# Altium schematic symbol library conn_pcie_pci.SchLib: 9 symbols
Pins are listed as number, name and electrical type; pins without a type are passive.

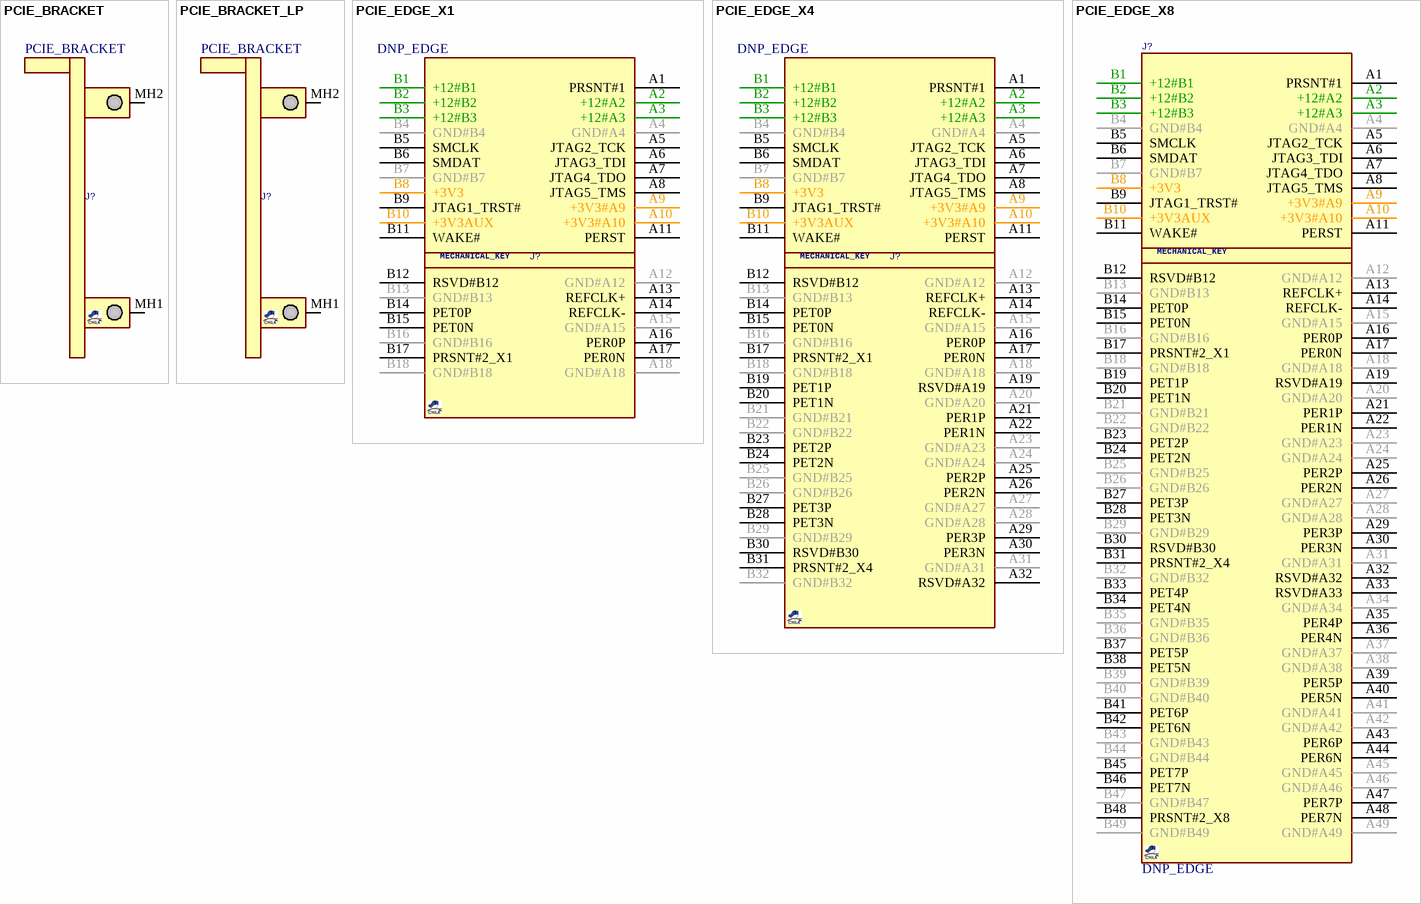
[diagram p0: symbols PCIE_BRACKET to PCIE_EDGE_X8]

## PCIE_BRACKET
designator J?
PC IO BOARD BRACKET; VALUE: PCIE_BRACKET
footprint PCIE_BRACKET (PC IO BOARD BRACKET)
pins: MH1, MH2

## PCIE_BRACKET_LP
designator J?, comment PCIE_BRACKET
PC IO BOARD BRACKET; VALUE: PCIE_BRACKET
footprint PCIE_BRACKET_LP (PC IO BOARD BRACKET)
pins: MH1, MH2

## PCIE_EDGE_X1
designator J?, comment DNP_EDGE
PCIE, 1LANE, EDGE pcb connections; VALUE: DNP_EDGE
footprint PCIE_X1_EDGE (Footprint not found)
pins: A1 PRSNT#1, A2 +12#A2, A3 +12#A3, A4 GND#A4, A5 JTAG2_TCK, A6 JTAG3_TDI, A7 JTAG4_TDO, A8 JTAG5_TMS, A9 +3V3#A9, A10 +3V3#A10, A11 PERST, A12 GND#A12, A13 REFCLK+, A14 REFCLK-, A15 GND#A15, A16 PER0P, A17 PER0N, A18 GND#A18, B1 +12#B1, B2 +12#B2, B3 +12#B3, B4 GND#B4, B5 SMCLK, B6 SMDAT, B7 GND#B7, B8 +3V3, B9 JTAG1_TRST#, B10 +3V3AUX, B11 WAKE#, B12 RSVD#B12, B13 GND#B13, B14 PET0P, B15 PET0N, B16 GND#B16, B17 PRSNT#2_X1, B18 GND#B18
text: MECHANICAL_KEY

## PCIE_EDGE_X4
designator J?, comment DNP_EDGE
PCIE, 4LANE, EDGE pcb connections; VALUE: DNP_EDGE
footprint PCIE_X4_EDGE (Footprint not found)
pins: A1 PRSNT#1, A2 +12#A2, A3 +12#A3, A4 GND#A4, A5 JTAG2_TCK, A6 JTAG3_TDI, A7 JTAG4_TDO, A8 JTAG5_TMS, A9 +3V3#A9, A10 +3V3#A10, A11 PERST, A12 GND#A12, A13 REFCLK+, A14 REFCLK-, A15 GND#A15, A16 PER0P, A17 PER0N, A18 GND#A18, A19 RSVD#A19, A20 GND#A20, A21 PER1P, A22 PER1N, A23 GND#A23, A24 GND#A24, A25 PER2P, A26 PER2N, A27 GND#A27, A28 GND#A28, A29 PER3P, A30 PER3N, A31 GND#A31, A32 RSVD#A32, B1 +12#B1, B2 +12#B2, B3 +12#B3, B4 GND#B4, B5 SMCLK, B6 SMDAT, B7 GND#B7, B8 +3V3, B9 JTAG1_TRST#, B10 +3V3AUX, B11 WAKE#, B12 RSVD#B12, B13 GND#B13, B14 PET0P, B15 PET0N, B16 GND#B16, B17 PRSNT#2_X1, B18 GND#B18, B19 PET1P, B20 PET1N, B21 GND#B21, B22 GND#B22, B23 PET2P, B24 PET2N, B25 GND#B25, B26 GND#B26, B27 PET3P, B28 PET3N, B29 GND#B29, B30 RSVD#B30, B31 PRSNT#2_X4, B32 GND#B32
text: MECHANICAL_KEY

## PCIE_EDGE_X8
designator J?, comment DNP_EDGE
PCIE, 8LANE, EDGE pcb connections; VALUE: DNP_EDGE
footprint PCIE_X8_EDGE (Footprint not found)
pins: A1 PRSNT#1, A2 +12#A2, A3 +12#A3, A4 GND#A4, A5 JTAG2_TCK, A6 JTAG3_TDI, A7 JTAG4_TDO, A8 JTAG5_TMS, A9 +3V3#A9, A10 +3V3#A10, A11 PERST, A12 GND#A12, A13 REFCLK+, A14 REFCLK-, A15 GND#A15, A16 PER0P, A17 PER0N, A18 GND#A18, A19 RSVD#A19, A20 GND#A20, A21 PER1P, A22 PER1N, A23 GND#A23, A24 GND#A24, A25 PER2P, A26 PER2N, A27 GND#A27, A28 GND#A28, A29 PER3P, A30 PER3N, A31 GND#A31, A32 RSVD#A32, A33 RSVD#A33, A34 GND#A34, A35 PER4P, A36 PER4N, A37 GND#A37, A38 GND#A38, A39 PER5P, A40 PER5N, A41 GND#A41, A42 GND#A42, A43 PER6P, A44 PER6N, A45 GND#A45, A46 GND#A46, A47 PER7P, A48 PER7N, A49 GND#A49, B1 +12#B1, B2 +12#B2, B3 +12#B3, B4 GND#B4, B5 SMCLK, B6 SMDAT, B7 GND#B7, B8 +3V3, B9 JTAG1_TRST#, B10 +3V3AUX, B11 WAKE#, B12 RSVD#B12, B13 GND#B13, B14 PET0P, B15 PET0N, B16 GND#B16, B17 PRSNT#2_X1, B18 GND#B18, B19 PET1P, B20 PET1N, B21 GND#B21, B22 GND#B22, B23 PET2P, B24 PET2N, B25 GND#B25, B26 GND#B26, B27 PET3P, B28 PET3N, B29 GND#B29, B30 RSVD#B30, B31 PRSNT#2_X4, B32 GND#B32, B33 PET4P, B34 PET4N, B35 GND#B35, B36 GND#B36, B37 PET5P, B38 PET5N, B39 GND#B39, B40 GND#B40, B41 PET6P, B42 PET6N, B43 GND#B43, B44 GND#B44, B45 PET7P, B46 PET7N, B47 GND#B47, B48 PRSNT#2_X8, B49 GND#B49
text: MECHANICAL_KEY

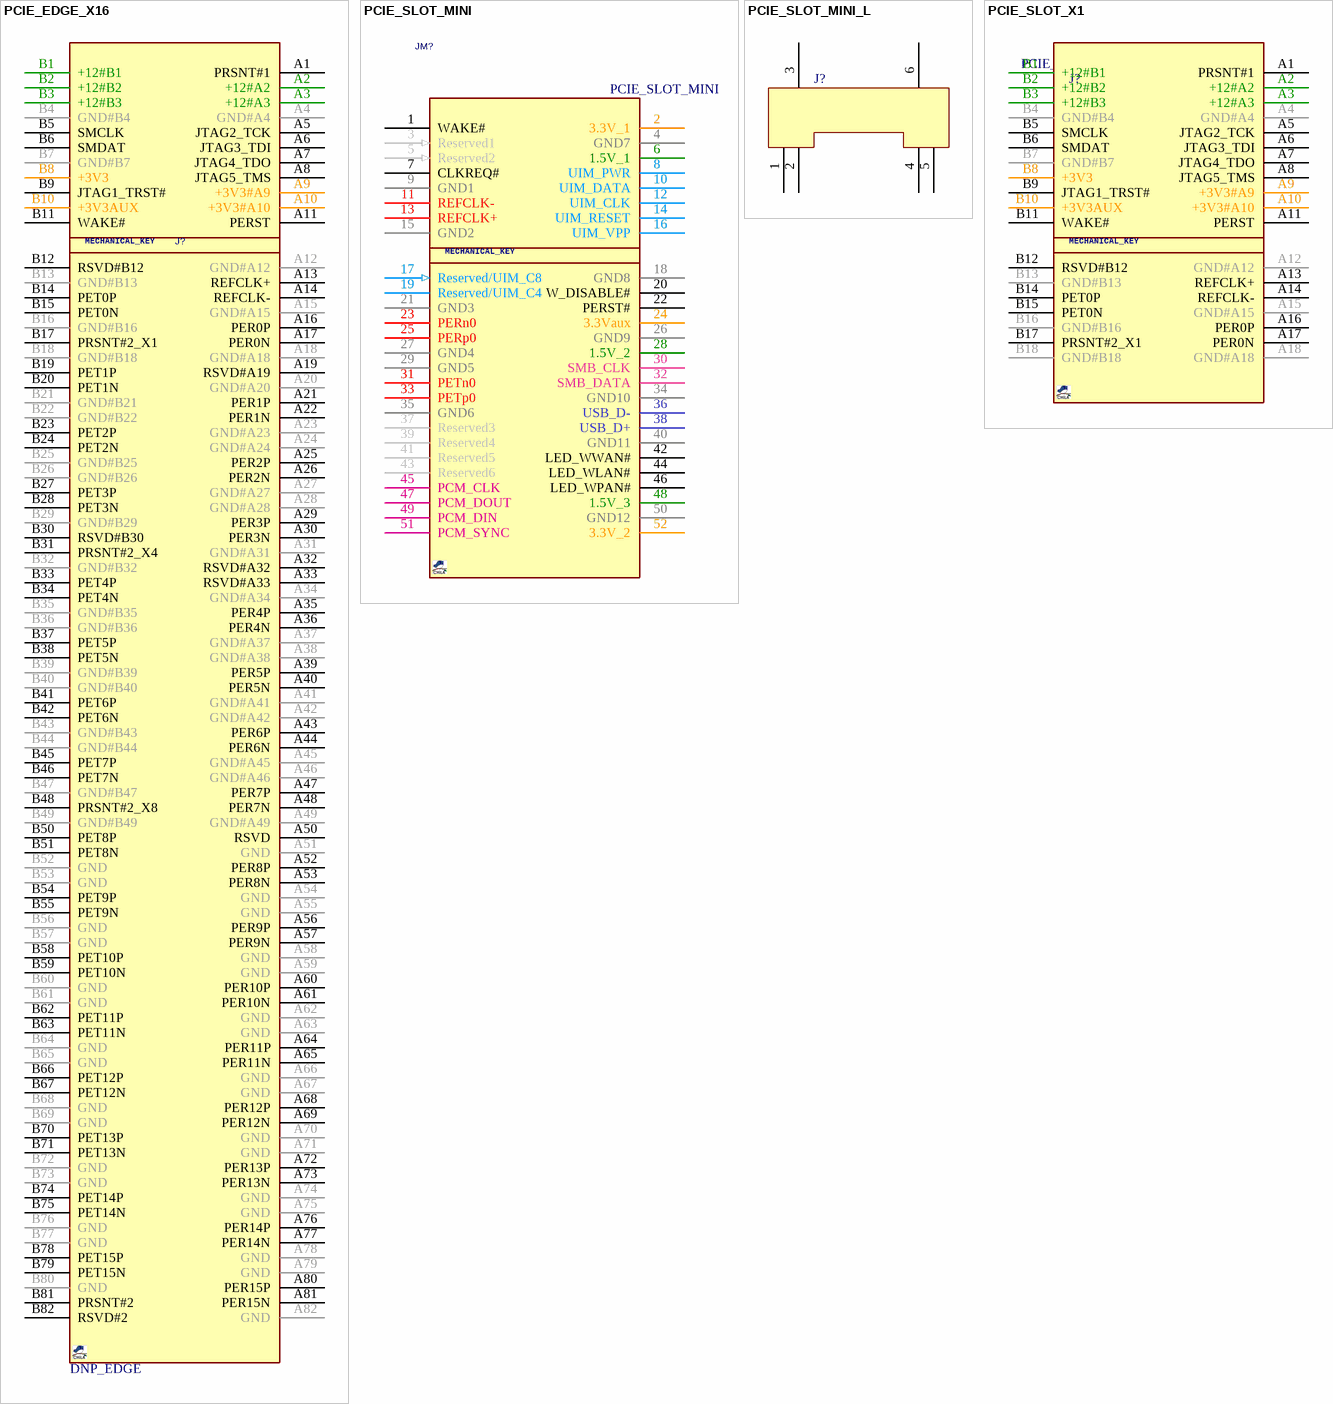
[diagram p1: symbols PCIE_EDGE_X16 to PCIE_SLOT_X1]

## PCIE_EDGE_X16
designator J?, comment DNP_EDGE
PCIE, 16LANE, EDGE pcb connections; VALUE: DNP_EDGE
footprint PCIE_X16_EDGE (Footprint not found)
pins: A1 PRSNT#1, A2 +12#A2, A3 +12#A3, A4 GND#A4, A5 JTAG2_TCK, A6 JTAG3_TDI, A7 JTAG4_TDO, A8 JTAG5_TMS, A9 +3V3#A9, A10 +3V3#A10, A11 PERST, A12 GND#A12, A13 REFCLK+, A14 REFCLK-, A15 GND#A15, A16 PER0P, A17 PER0N, A18 GND#A18, A19 RSVD#A19, A20 GND#A20, A21 PER1P, A22 PER1N, A23 GND#A23, A24 GND#A24, A25 PER2P, A26 PER2N, A27 GND#A27, A28 GND#A28, A29 PER3P, A30 PER3N, A31 GND#A31, A32 RSVD#A32, A33 RSVD#A33, A34 GND#A34, A35 PER4P, A36 PER4N, A37 GND#A37, A38 GND#A38, A39 PER5P, A40 PER5N, A41 GND#A41, A42 GND#A42, A43 PER6P, A44 PER6N, A45 GND#A45, A46 GND#A46, A47 PER7P, A48 PER7N, A49 GND#A49, A50 RSVD, A51 GND, A52 PER8P, A53 PER8N, A54 GND, A55 GND, A56 PER9P, A57 PER9N, A58 GND, A59 GND, A60 PER10P, A61 PER10N, A62 GND, A63 GND, A64 PER11P, A65 PER11N, A66 GND, A67 GND, A68 PER12P, A69 PER12N, A70 GND, A71 GND, A72 PER13P, A73 PER13N, A74 GND, A75 GND, A76 PER14P, A77 PER14N, A78 GND, A79 GND, A80 PER15P, A81 PER15N, A82 GND, B1 +12#B1, B2 +12#B2, B3 +12#B3, B4 GND#B4, B5 SMCLK, B6 SMDAT, B7 GND#B7, B8 +3V3, B9 JTAG1_TRST#, B10 +3V3AUX, B11 WAKE#, B12 RSVD#B12, B13 GND#B13, B14 PET0P, B15 PET0N, B16 GND#B16, B17 PRSNT#2_X1, B18 GND#B18, B19 PET1P, B20 PET1N, B21 GND#B21, B22 GND#B22, B23 PET2P, B24 PET2N, B25 GND#B25, B26 GND#B26, B27 PET3P, B28 PET3N, B29 GND#B29, B30 RSVD#B30, B31 PRSNT#2_X4, B32 GND#B32, B33 PET4P, B34 PET4N, B35 GND#B35, B36 GND#B36, B37 PET5P, B38 PET5N, B39 GND#B39, B40 GND#B40, B41 PET6P, B42 PET6N, B43 GND#B43, B44 GND#B44, B45 PET7P, B46 PET7N, B47 GND#B47, B48 PRSNT#2_X8, B49 GND#B49, B50 PET8P, B51 PET8N, B52 GND, B53 GND, B54 PET9P, B55 PET9N, B56 GND, B57 GND, B58 PET10P, B59 PET10N, B60 GND, B61 GND, B62 PET11P, B63 PET11N, B64 GND, B65 GND, B66 PET12P, B67 PET12N, B68 GND, B69 GND, B70 PET13P, B71 PET13N, B72 GND, B73 GND, B74 PET14P, B75 PET14N, B76 GND, B77 GND, B78 PET15P, B79 PET15N, B80 GND, B81 PRSNT#2, B82 RSVD#2
text: MECHANICAL_KEY

## PCIE_SLOT_MINI
designator JM?
CONN, PCIE SLOT, MINI, 2X26, SMT 0.8mm SP 1136H; MANF: Molex, JAE Electronics; MANF_P#: 679100002, MM60-52B1-E1-R650; PARAM2: PCI Express Mini Card 1mm thickness; PARAM: 0.80mm pitch, Right Angle, 2X26; PRICE: 1=2.16, 10=1.962, 25=1.842, 100=1.6817, 250=1.52152 (USD); VALUE: PCIE_SLOT_MINI
footprint PCIE_SLOT_MINI (Footprint not found)
pins: 1 WAKE#, 2 3.3V_1, 3 Reserved1 (in), 4 GND7, 5 Reserved2 (in), 6 1.5V_1, 7 CLKREQ#, 8 UIM_PWR, 9 GND1, 10 UIM_DATA, 11 REFCLK-, 12 UIM_CLK, 13 REFCLK+, 14 UIM_RESET, 15 GND2, 16 UIM_VPP, 17 Reserved/UIM_C8 (in), 18 GND8, 19 Reserved/UIM_C4, 20 W_DISABLE#, 21 GND3, 22 PERST#, 23 PERn0, 24 3.3Vaux, 25 PERp0, 26 GND9, 27 GND4, 28 1.5V_2, 29 GND5, 30 SMB_CLK, 31 PETn0, 32 SMB_DATA, 33 PETp0, 34 GND10, 35 GND6, 36 USB_D-, 37 Reserved3, 38 USB_D+, 39 Reserved4, 40 GND11, 41 Reserved5, 42 LED_WWAN#, 43 Reserved6, 44 LED_WLAN#, 45 PCM_CLK, 46 LED_WPAN#, 47 PCM_DOUT, 48 1.5V_3, 49 PCM_DIN, 50 GND12, 51 PCM_SYNC, 52 3.3V_2
text: MECHANICAL_KEY

## PCIE_SLOT_MINI_L
designator J?  (value not drawn)
CONN, PCIE LATCH, MINI, 2X26, SMT 0.8mm; For Use With/Related Products: PCI Express Mini Card; MANF: JAE Electronics; MANF_P#: MM60-EZH059-B5-R650; PRICE: 1=1.22, 10=1.075, 25=1.0116, 100=0.9272, 250=0.84292 (USD); VALUE: PCIE_SLOT_MINI_L
footprint PCIE_SLOT_MINI_L (Footprint not found)
pins: 1, 2, 3, 4, 5, 6

## PCIE_SLOT_X1
designator J?
CONN, PCI EXPRESS Slot, 36POS, VERT, THD; MANF: FCI; MANF_P#: 10018783-10010TLF; PARAM2: 1.57mm card thickness; PARAM: 1mm pitch, Board Guide, Locking Ramp; PRICE: 1=0.74, 10=0.69, 50=0.552, 100=0.529, 250=0.483, 500=0.46, 1000=0.3795, 2500=0.345, 5000=0.3335 (USD); VALUE: PCIE_SLOT_X1
footprint Mini_PCIe_36pin (Creator MM)
pins: A1 PRSNT#1, A2 +12#A2, A3 +12#A3, A4 GND#A4, A5 JTAG2_TCK, A6 JTAG3_TDI, A7 JTAG4_TDO, A8 JTAG5_TMS, A9 +3V3#A9, A10 +3V3#A10, A11 PERST, A12 GND#A12, A13 REFCLK+, A14 REFCLK-, A15 GND#A15, A16 PER0P, A17 PER0N, A18 GND#A18, B1 +12#B1, B2 +12#B2, B3 +12#B3, B4 GND#B4, B5 SMCLK, B6 SMDAT, B7 GND#B7, B8 +3V3, B9 JTAG1_TRST#, B10 +3V3AUX, B11 WAKE#, B12 RSVD#B12, B13 GND#B13, B14 PET0P, B15 PET0N, B16 GND#B16, B17 PRSNT#2_X1, B18 GND#B18
text: MECHANICAL_KEY